# EAGLE library part VISHAY_SI7288DP-T1-GE3 (library SI7288DP-T1-GE3)
Dual N-Channel 40-V (D-S) MOSFET
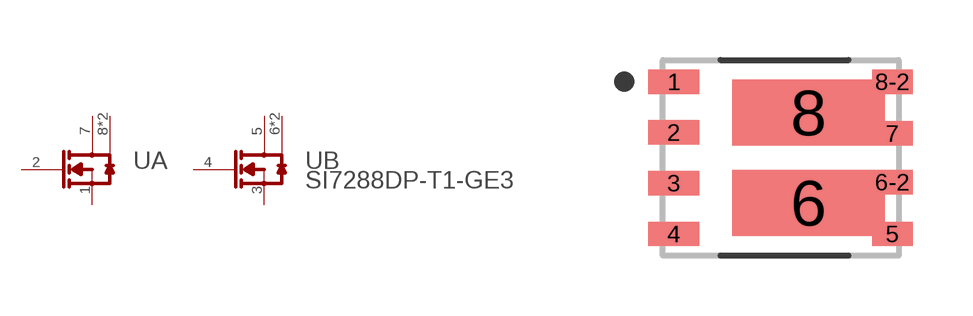
[diagram p0: symbol with the pads of VISHAY_SI7288DP-T1-GE3_0; footprint VISHAY_SI7288DP-T1-GE3_0]

Designator prefix U; gates A=VISHAY_SI7288DP-T1-GE3_0_0 B=VISHAY_SI7288DP-T1-GE3_0_1

## VISHAY_SI7288DP-T1-GE3VISHAY_SI7288DP-T1-GE3_0_0 (DATASHEET: http://www.vishay.com/docs/65366/si7288dp.pdf; DIGIKEY_DESCRIPTION: IC MOSFET 2N-CH 40V 20A PPAK SO-8; DIGIKEY_PART_NUMBER: SI7288DP-T1-GE3CT-ND; LEAD_FREE: yes; MF: Vishay; MFG_PACKAGE_IDENT: PowerPAKSO-8; MOUSER_PART_NUMBER: 781-SI7288DP-T1-GE3; MPN: SI7288DP-T1-GE3; OCTOPART_PART_NUMBER: SI7288DP-T1-GE3; PACKAGE: PowerPAKSO-8; PREFIX: U; ROHS: yes; TEMPERATURE_RANGE_HIGH: +150°C; TEMPERATURE_RANGE_LOW: -55°C)  [VISHAY_SI7288DP-T1-GE3_0]
1  A:S1
2  A:G1
3  B:S2
4  B:G2
5  B:1_D2
6  B:2_D2
6-2  B:2_D2
7  A:1_D1
8  A:2_D1
8-2  A:2_D1

## Footprint VISHAY_SI7288DP-T1-GE3_0 (pad centres in mm)
Dual N-Channel 40-V (D-S) MOSFET
smd 1.27 x 0.61: 1 -2.67,1.905; 2 -2.67,0.635; 3 -2.67,-0.635; 4 -2.67,-1.905
smd 1.02 x 0.61: 5 2.795,-1.905; 6-2 2.795,-0.61; 7 2.795,0.61; 8-2 2.795,1.905
smd 3.81 x 1.65: 6 0.69,-1.13; 8 0.69,1.13